# Altium schematic symbol library Relays.SchLib: 1 symbol
Pins are listed as number, name and electrical type; pins without a type are passive.

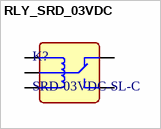
[diagram p0: symbol RLY_SRD_03VDC]

## RLY_SRD_03VDC
designator K?, comment SRD-03VDC-SL-C
250V@AC 3V 15A One Conversion: 1C (SPDT-Conversion) Plugin,15.6x19.2mm Power Relays ROHS; Mrf. part: ?; LCSC Part: ?; JLCPCB Part: ?
footprint RLY_SRD_03VDC
pins: 1, 2, 3, 4, 5